# EAGLE library part MB504 (library dtoy-RF)
MB501/504 by hyl 2011.4.8
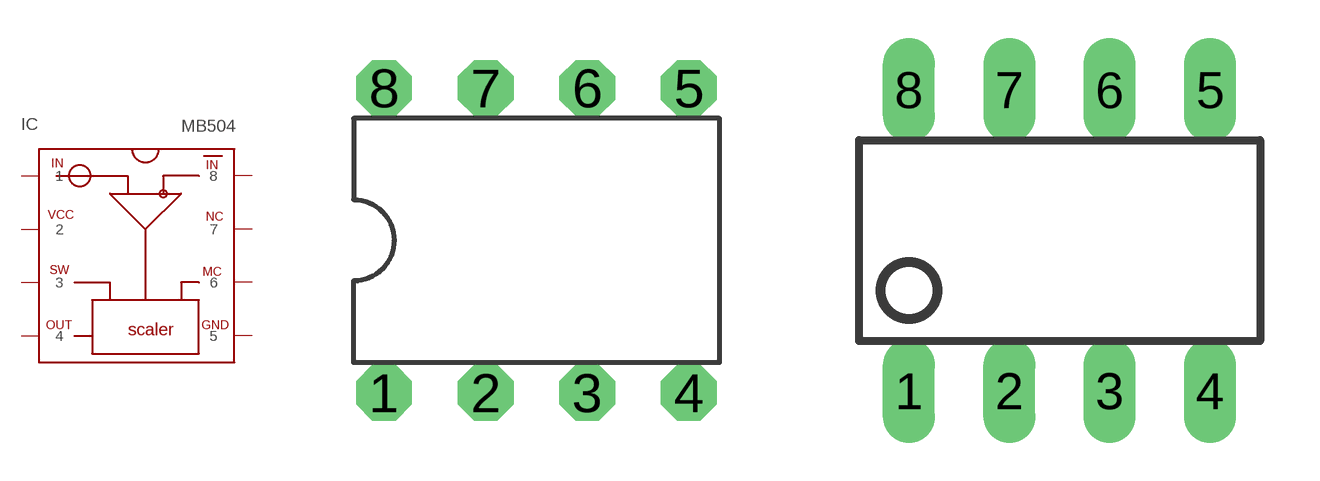
[diagram p10: symbol with the pads of DIL-08; footprints DIL-08, DIP08-L]

Designator prefix IC

## MB504-DIL  [DIL-08]
1  1  pas
2  2  pas
3  3  pas
4  4  pas
5  5  pas
6  6  pas
7  7  pas
8  8  pas

## MB504-DIL-L  [DIP08-L]
Pads as for DIL-08

## MB504-RF  [DIP8-RF]
P$1  1  pas
P$2  2  pas
P$3  3  pas
P$4  4  pas
P$5  5  pas
P$6  6  pas
P$7  7  pas
P$8  8  pas

## Footprint DIL-08 (pad centres in mm)
drill 0.61 pad 1.397 octagon: 1 -3.81,-3.81; 2 -1.27,-3.81; 3 1.27,-3.81; 4 3.81,-3.81; 5 3.81,3.81; 6 1.27,3.81; 7 -1.27,3.81; 8 -3.81,3.81

## Footprint DIP08-L (pad centres in mm)
drill 0.813 long: 1 0,-2.54; 2 2.54,-2.54; 3 5.08,-2.54; 4 7.62,-2.54; 5 7.62,5.08; 6 5.08,5.08; 7 2.54,5.08; 8 0,5.08

## Footprint DIP8-RF (pad centres in mm)
Digital toy packages avoid drill too many hole,just soldering..., and good for RF prototype board
smd 1.27 x 3.81: P$1 0,-3.81; P$2 2.54,-3.81; P$3 5.08,-3.81; P$4 7.62,-3.81; P$5 7.62,6.35; P$6 5.08,6.35; P$7 2.54,6.35; P$8 0,6.35